# EAGLE library part TD62083AFNG (library transistors)
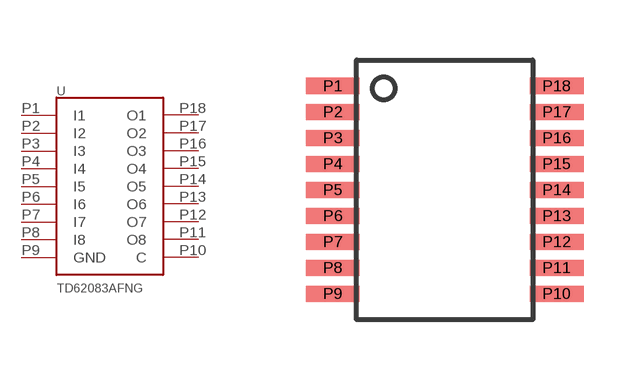
[diagram p2: symbol with the pads of SSOP18-P-225-0.65; footprint SSOP18-P-225-0.65]

Designator prefix -

## TD62083AFNG  [SSOP18-P-225-0.65]
P1  I1  in
P2  I2  in
P3  I3  in
P4  I4  in
P5  I5  in
P6  I6  in
P7  I7  in
P8  I8  in
P9  GND  pwr
P10  C
P11  O8
P12  O7
P13  O6
P14  O5
P15  O4
P16  O3
P17  O2
P18  O1

## Footprint SSOP18-P-225-0.65 (pad centres in mm)
smd 1.35 x 0.4: P1 -2.8,2.6; P2 -2.8,1.95; P3 -2.8,1.3; P4 -2.8,0.65; P5 -2.8,0; P6 -2.8,-0.65; P7 -2.8,-1.3; P8 -2.8,-1.95; P9 -2.8,-2.6; P10 2.8,-2.6; P11 2.8,-1.95; P12 2.8,-1.3; P13 2.8,-0.65; P14 2.8,0; P15 2.8,0.65; P16 2.8,1.3; P17 2.8,1.95; P18 2.8,2.6